# EAGLE library part TPS54540 (library tmxk)
BUCK 芯片 4.5-42V输入，电压可调5A输出
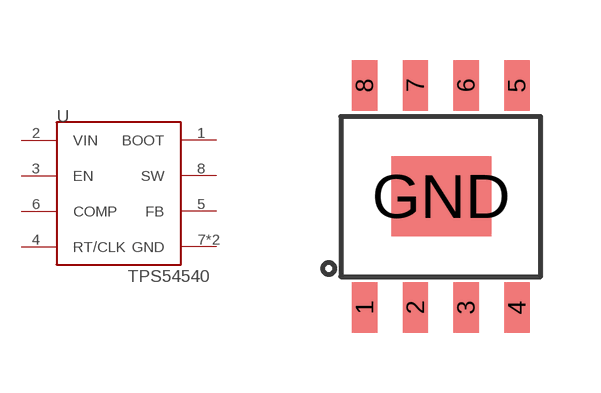
[diagram p1: symbol with the pads of SOP8-PAD; footprint SOP8-PAD]

Designator prefix U

## TPS54540  [SOP8-PAD]
1  BOOT
2  VIN
3  EN
4  RT/CLK
5  FB
6  COMP
7  GND
8  SW
GND  GND

## Footprint SOP8-PAD (pad centres in mm)
smd 0.635 x 1.27: 1 -1.925,-2.79; 2 -0.655,-2.79; 3 0.615,-2.79; 4 1.885,-2.79; 5 1.885,2.76; 6 0.615,2.76; 7 -0.655,2.76; 8 -1.925,2.76
smd 2.5 x 2: GND -0.01,-0.01